# EAGLE library part 641828-1 (library matt con-amp)
Universal MATE-N-LOK .250" Centerline, 600 V, 19 - 36 A max Source: http://catalog.tycoelectronics.com/ .. ENG_CD_641828_M.pdf
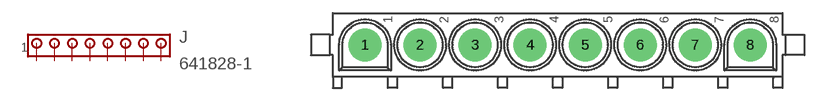
[diagram p172: symbol with the pads of 641828-1; footprint 641828-1]

Designator prefix J

## 641828-1  [641828-1]
1  1  pas
2  2  pas
3  3  pas
4  4  pas
5  5  pas
6  6  pas
7  7  pas
8  8  pas

## Footprint 641828-1 (pad centres in mm)
Universal MATE-N-LOK .250" Centerline, 600 V, 19 - 36 A max Source: http://catalog.tycoelectronics.com/ .. ENG_CD_641828_M.pdf
drill 1.8 pad 3.81 round: 1 -22.225,0; 2 -15.875,0; 3 -9.525,0; 4 -3.175,0; 5 3.175,0; 6 9.525,0; 7 15.875,0; 8 22.225,0